# Altium schematic symbol library adc_highspeed.SchLib: 18 symbols
Pins are listed as number, name and electrical type; pins without a type are passive.

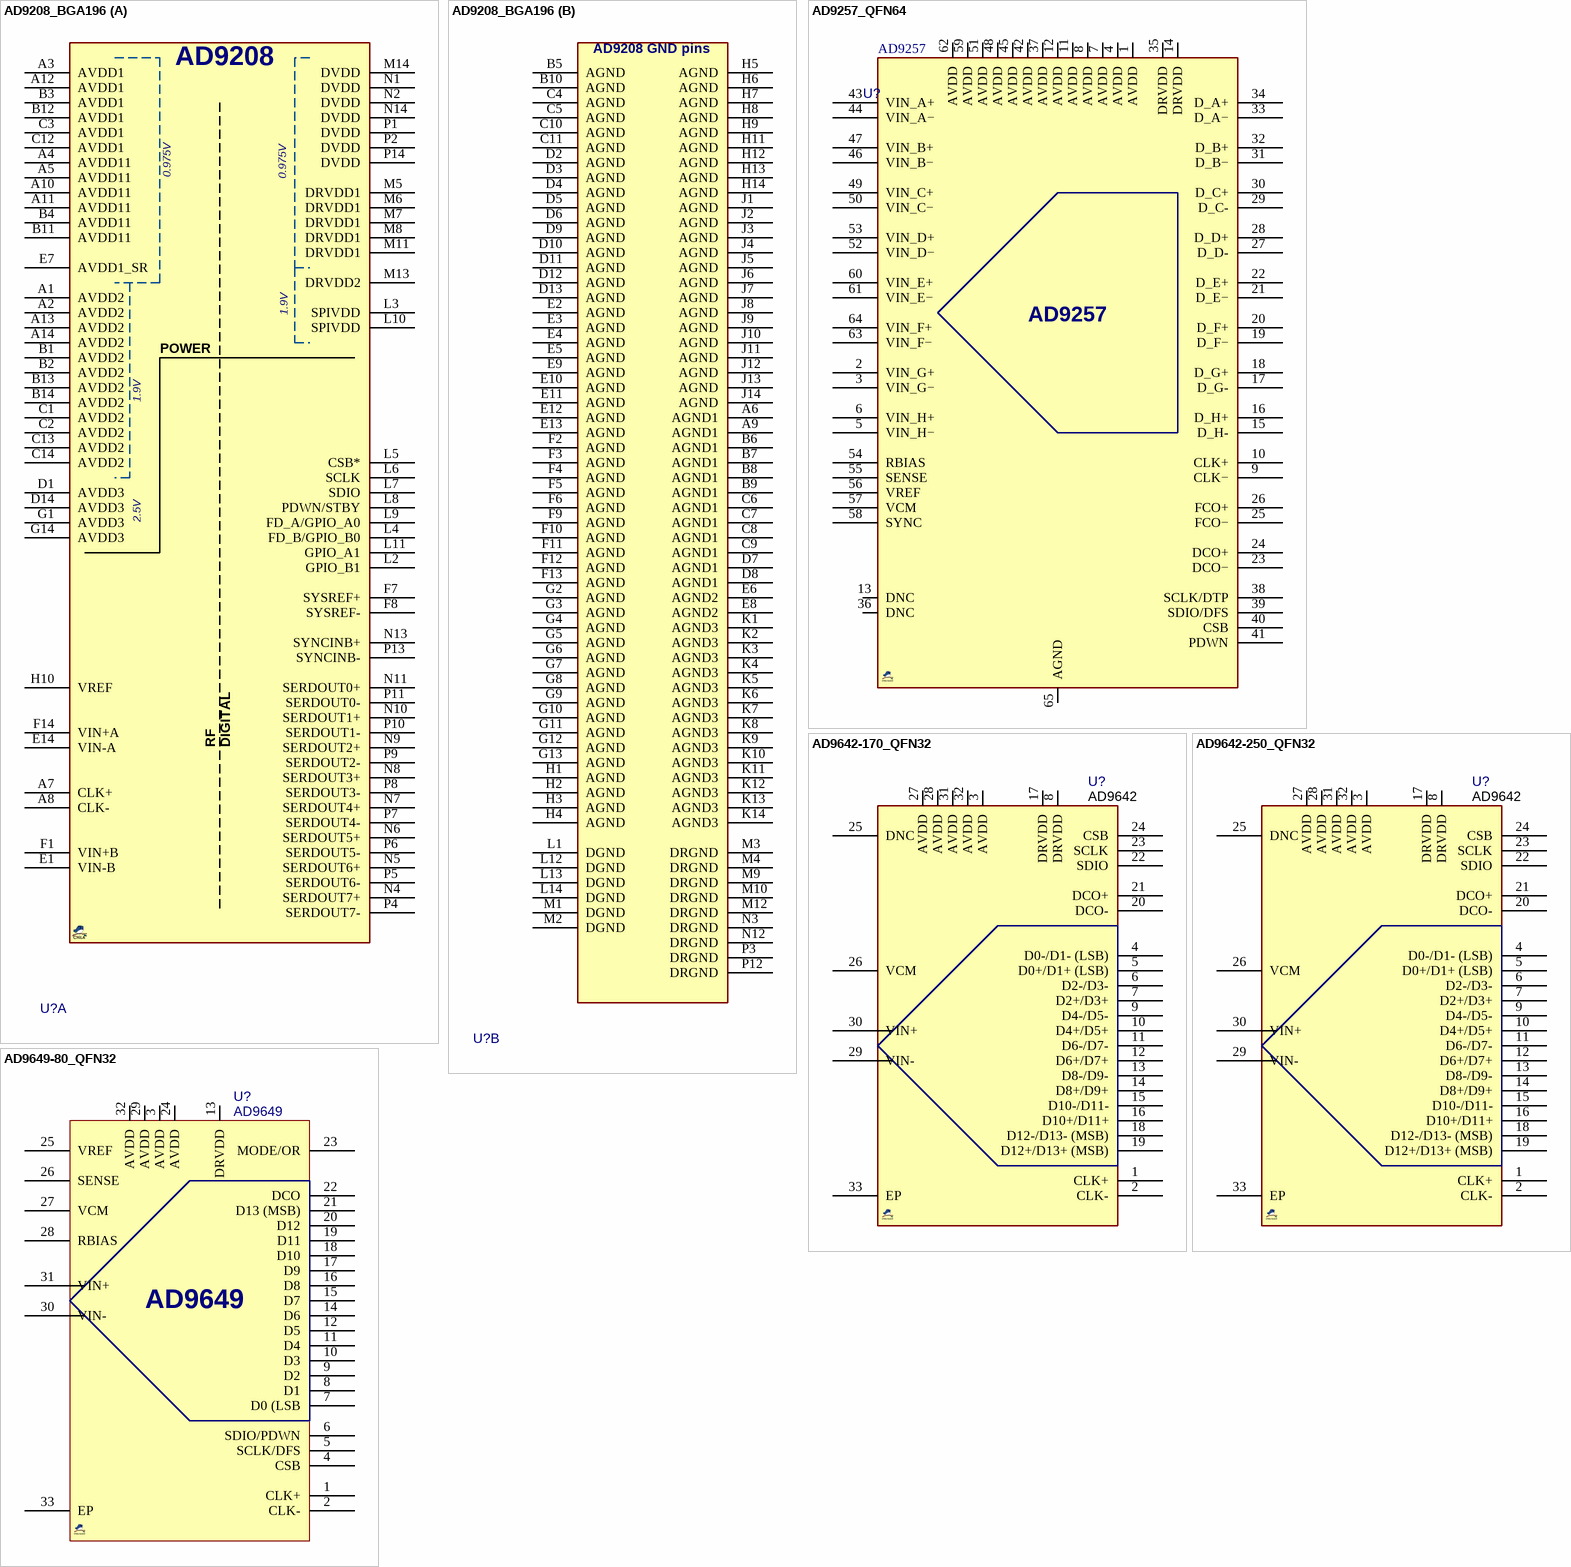
[diagram p0: symbols AD9208_BGA196 to AD9649-80_QFN32]

## AD9208_BGA196
designator U?, comment AD9208  (value not drawn)
ADC, 14-Bit, 3Gsps, Dual, JESD204B; MANF: Analog Devices; PARAM: -40~85°C; DESC: DESCRIPTION; MANF_P#: AD9208BBPZ-3000; PARAM2: 0.975V, 1.9V, 2.5V; ASSEMBLY: ASSEMBLY; PRICE: 1600$; VALUE: AD9208; PACKAGE: BGA-196
footprint BGA80_196_S12 (BP-196-4, 0.8mm pitch, 12X12X1.53mm)
part A pins: A1 AVDD2, A2 AVDD2, A3 AVDD1, A4 AVDD11, A5 AVDD11, A7 CLK+, A8 CLK-, A10 AVDD11, A11 AVDD11, A12 AVDD1, A13 AVDD2, A14 AVDD2, B1 AVDD2, B2 AVDD2, B3 AVDD1, B4 AVDD11, B11 AVDD11, B12 AVDD1, B13 AVDD2, B14 AVDD2, C1 AVDD2, C2 AVDD2, C3 AVDD1, C12 AVDD1, C13 AVDD2, C14 AVDD2, D1 AVDD3, D14 AVDD3, E1 VIN-B, E7 AVDD1_SR, E14 VIN-A, F1 VIN+B, F7 SYSREF+, F8 SYSREF-, F14 VIN+A, G1 AVDD3, G14 AVDD3, H10 VREF, L2 GPIO_B1, L3 SPIVDD, L4 FD_B/GPIO_B0, L5 CSB*, L6 SCLK, L7 SDIO, L8 PDWN/STBY, L9 FD_A/GPIO_A0, L10 SPIVDD, L11 GPIO_A1, M5 DRVDD1, M6 DRVDD1, M7 DRVDD1, M8 DRVDD1, M11 DRVDD1, M13 DRVDD2, M14 DVDD, N1 DVDD, N2 DVDD, N4 SERDOUT7+, N5 SERDOUT6+, N6 SERDOUT5+, N7 SERDOUT4+, N8 SERDOUT3+, N9 SERDOUT2+, N10 SERDOUT1+, N11 SERDOUT0+, N13 SYNCINB+, N14 DVDD, P1 DVDD, P2 DVDD, P4 SERDOUT7-, P5 SERDOUT6-, P6 SERDOUT5-, P7 SERDOUT4-, P8 SERDOUT3-, P9 SERDOUT2-, P10 SERDOUT1-, P11 SERDOUT0-, P13 SYNCINB-, P14 DVDD
part B pins: A6 AGND1, A9 AGND1, B5 AGND, B6 AGND1, B7 AGND1, B8 AGND1, B9 AGND1, B10 AGND, C4 AGND, C5 AGND, C6 AGND1, C7 AGND1, C8 AGND1, C9 AGND1, C10 AGND, C11 AGND, D2 AGND, D3 AGND, D4 AGND, D5 AGND, D6 AGND, D7 AGND1, D8 AGND1, D9 AGND, D10 AGND, D11 AGND, D12 AGND, D13 AGND, E2 AGND, E3 AGND, E4 AGND, E5 AGND, E6 AGND2, E8 AGND2, E9 AGND, E10 AGND, E11 AGND, E12 AGND, E13 AGND, F2 AGND, F3 AGND, F4 AGND, F5 AGND, F6 AGND, F9 AGND, F10 AGND, F11 AGND, F12 AGND, F13 AGND, G2 AGND, G3 AGND, G4 AGND, G5 AGND, G6 AGND, G7 AGND, G8 AGND, G9 AGND, G10 AGND, G11 AGND, G12 AGND, G13 AGND, H1 AGND, H2 AGND, H3 AGND, H4 AGND, H5 AGND, H6 AGND, H7 AGND, H8 AGND, H9 AGND, H11 AGND, H12 AGND, H13 AGND, H14 AGND, J1 AGND, J2 AGND, J3 AGND, J4 AGND, J5 AGND, J6 AGND, J7 AGND, J8 AGND, J9 AGND, J10 AGND, J11 AGND, J12 AGND, J13 AGND, J14 AGND, K1 AGND3, K2 AGND3, K3 AGND3, K4 AGND3, K5 AGND3, K6 AGND3, K7 AGND3, K8 AGND3, K9 AGND3, K10 AGND3, K11 AGND3, K12 AGND3, K13 AGND3, K14 AGND3, L1 DGND, L12 DGND, L13 DGND, L14 DGND, M1 DGND, M2 DGND, M3 DRGND, M4 DRGND, M9 DRGND, M10 DRGND, M12 DRGND, N3 DRGND, N12 DRGND, P3 DRGND, P12 DRGND
part A text: 0.975V; 1.9V; POWER; 2.5V; RF; DIGITAL
part B text: AD9208 GND pins

## AD9257_QFN64
designator U?, comment AD9257
ADC, 14-Bit, 40/65MSPS, 8CH, Serial LVDS, 1.8V, QFN-64; MANF: Analog Devices; MANF_P#: AD9257BCPZ; PARAM: 14-Bit, 40/65 MSPS, 8CH, 650MHz BW; PARAM2: Serial LVDS, 1.8V, 550mW; DIST#: -; PRICE: 76$; PACKAGE: QFN-64; VALUE: AD9257
footprint QFN50_64T (LFCSP_VQ, MO-220-VMMD-4, MO-220-WNJR-5(JEDEC), RGC S-PQFP-N64 (TI), 9X9mm, 0.5mm)
pins: 1 AVDD, 2 VIN_G+, 3 VIN_G−, 4 AVDD, 5 VIN_H−, 6 VIN_H+, 7 AVDD, 8 AVDD, 9 CLK−, 10 CLK+, 11 AVDD, 12 AVDD, 13 DNC, 14 DRVDD, 15 D_H-, 16 D_H+, 17 D_G-, 18 D_G+, 19 D_F−, 20 D_F+, 21 D_E−, 22 D_E+, 23 DCO−, 24 DCO+, 25 FCO−, 26 FCO+, 27 D_D-, 28 D_D+, 29 D_C-, 30 D_C+, 31 D_B−, 32 D_B+, 33 D_A−, 34 D_A+, 35 DRVDD, 36 DNC, 37 AVDD, 38 SCLK/DTP, 39 SDIO/DFS, 40 CSB, 41 PDWN, 42 AVDD, 43 VIN_A+, 44 VIN_A−, 45 AVDD, 46 VIN_B−, 47 VIN_B+, 48 AVDD, 49 VIN_C+, 50 VIN_C−, 51 AVDD, 52 VIN_D−, 53 VIN_D+, 54 RBIAS, 55 SENSE, 56 VREF, 57 VCM, 58 SYNC, 59 AVDD, 60 VIN_E+, 61 VIN_E−, 62 AVDD, 63 VIN_F−, 64 VIN_F+, 65 AGND

## AD9642-170_QFN32
designator U?, comment AD9642
ADC, 14-Bit, 170MSPS, Parallel LVDS, 1.8V, QFN-32; MANF: Analog Devices; DESC: DESCRIPTION; MANF_P#: AD9642BCPZ-170; ASSEMBLY: ASSEMBLY; PARAM: 14-Bit, 170MSPS, Parallel LVDS; PRICE: 65$; PARAM2: 1.8V; PACKAGE: QFN-32; Value: AD9642
footprint QFN50_32T (QFN, 32, 5X5mm, 0.5mm)
pins: 1 CLK+, 2 CLK-, 3 AVDD, 4 D0-/D1- (LSB), 5 D0+/D1+ (LSB), 6 D2-/D3-, 7 D2+/D3+, 8 DRVDD, 9 D4-/D5-, 10 D4+/D5+, 11 D6-/D7-, 12 D6+/D7+, 13 D8-/D9-, 14 D8+/D9+, 15 D10-/D11-, 16 D10+/D11+, 17 DRVDD, 18 D12-/D13- (MSB), 19 D12+/D13+ (MSB), 20 DCO-, 21 DCO+, 22 SDIO, 23 SCLK, 24 CSB, 25 DNC, 26 VCM, 27 AVDD, 28 AVDD, 29 VIN-, 30 VIN+, 31 AVDD, 32 AVDD, 33 EP

## AD9642-250_QFN32
designator U?, comment AD9642
ADC, 14-Bit, 250MSPS, Parallel LVDS, 1.8V, QFN-32; MANF: Analog Devices; DESC: DESCRIPTION; MANF_P#: AD9642BCPZ-250; PARAM2: 1.8V, 390mW; ASSEMBLY: ASSEMBLY; PARAM: 14-Bit, 250MSPS, Parallel LVDS; PRICE: 110$; PACKAGE: QFN-32; Value: AD9642
footprint QFN50_32T (QFN, 32, 5X5mm, 0.5mm)
pins: 1 CLK+, 2 CLK-, 3 AVDD, 4 D0-/D1- (LSB), 5 D0+/D1+ (LSB), 6 D2-/D3-, 7 D2+/D3+, 8 DRVDD, 9 D4-/D5-, 10 D4+/D5+, 11 D6-/D7-, 12 D6+/D7+, 13 D8-/D9-, 14 D8+/D9+, 15 D10-/D11-, 16 D10+/D11+, 17 DRVDD, 18 D12-/D13- (MSB), 19 D12+/D13+ (MSB), 20 DCO-, 21 DCO+, 22 SDIO, 23 SCLK, 24 CSB, 25 DNC, 26 VCM, 27 AVDD, 28 AVDD, 29 VIN-, 30 VIN+, 31 AVDD, 32 AVDD, 33 EP

## AD9649-80_QFN32
designator U?, comment AD9649
ADC, 14-Bit, 80MSPS, Parallel LVDS, 1.8V, QFN-32; MANF_P#: AD9649BCPZ-80; MANF: ANALOG DEVICE; MANF: Analog Devices; PARAM: 14-Bit, 80MSPS, Parallel LVDS, 700MHz; DESC: DESCRIPTION; PARAM2: 1.8V, 87mW; ASSEMBLY: ASSEMBLY; PRICE: 34$; PACKAGE: QFN-32; Value: AD9649
footprint QFN50_32T (QFN, 32, 5X5mm, 0.5mm)
pins: 1 CLK+, 2 CLK-, 3 AVDD, 4 CSB, 5 SCLK/DFS, 6 SDIO/PDWN, 7 D0 (LSB, 8 D1, 9 D2, 10 D3, 11 D4, 12 D5, 13 DRVDD, 14 D6, 15 D7, 16 D8, 17 D9, 18 D10, 19 D11, 20 D12, 21 D13 (MSB), 22 DCO, 23 MODE/OR, 24 AVDD, 25 VREF, 26 SENSE, 27 VCM, 28 RBIAS, 29 AVDD, 30 VIN-, 31 VIN+, 32 AVDD, 33 EP

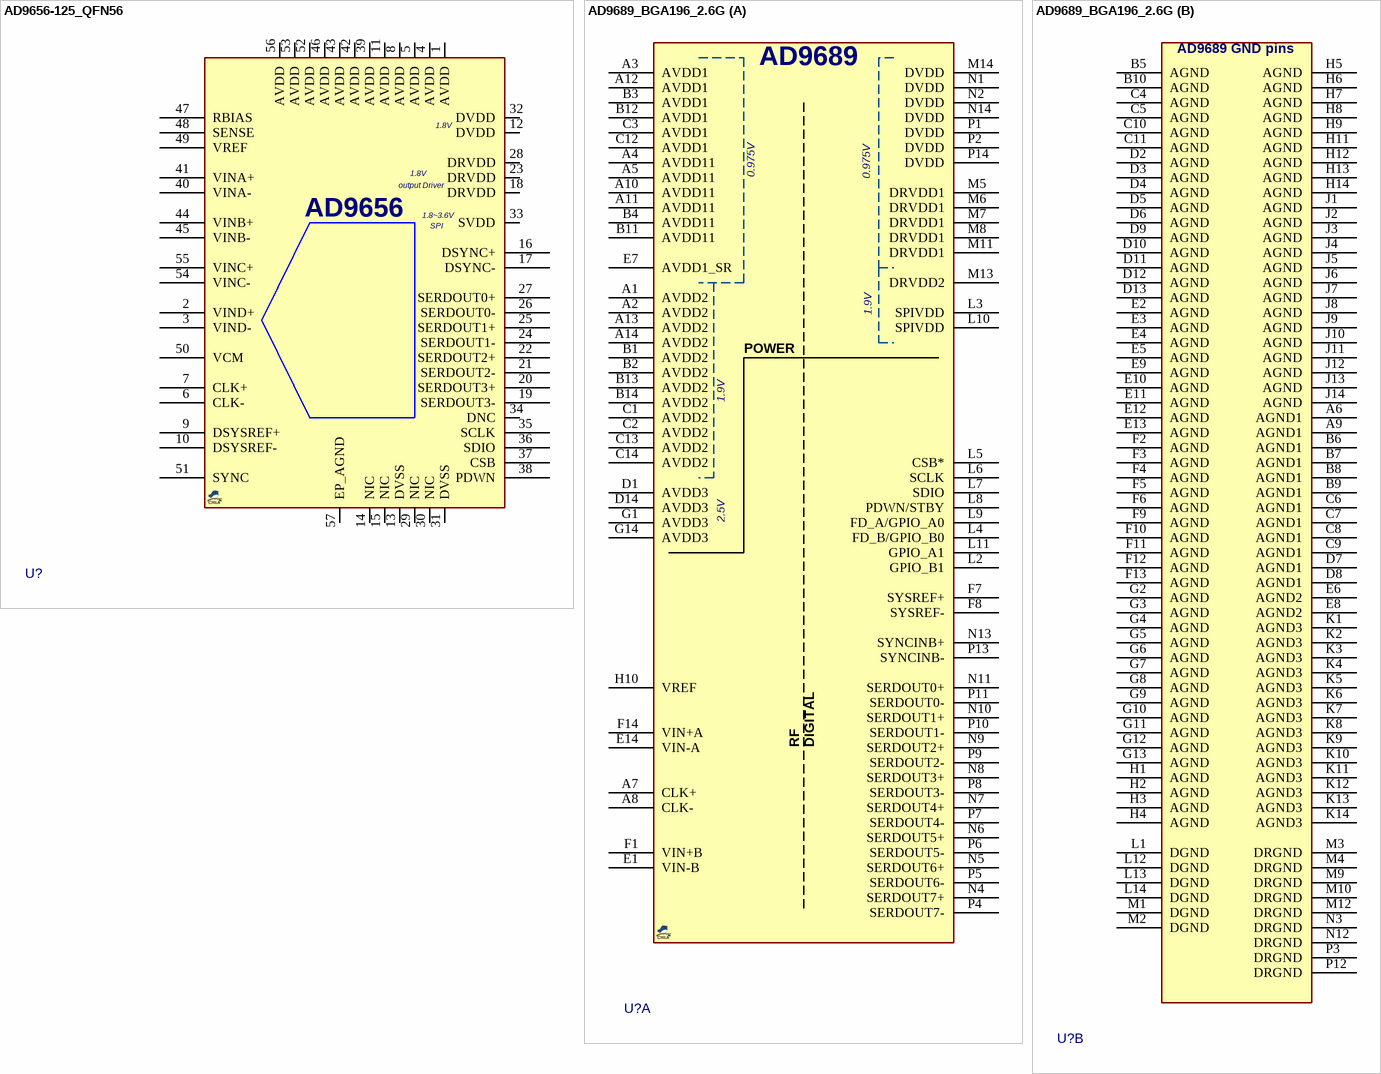
[diagram p1: symbols AD9656-125_QFN56 to AD9689_BGA196_2.6G]

## AD9656-125_QFN56
designator U?, comment AD9656  (value not drawn)
ADC, 16-Bit, 125Msps, 4CH, JESD204B; MANF: Analog Devices; PARAM: 0.8W; DESC: DESCRIPTION; MANF_P#: AD9656BCPZ-125; PARAM2: 1.8V, 1.8~3.6SVDD; ASSEMBLY: ASSEMBLY; PRICE: 500$; VALUE: AD9656; PACKAGE: QFN-56
footprint QFN50_56T (QFN56, pitch: 0.5mm, 8x8mm)
pins: 1 AVDD, 2 VIND+, 3 VIND-, 4 AVDD, 5 AVDD, 6 CLK-, 7 CLK+, 8 AVDD, 9 DSYSREF+, 10 DSYSREF-, 11 AVDD, 12 DVDD, 13 DVSS, 14 NIC, 15 NIC, 16 DSYNC+, 17 DSYNC-, 18 DRVDD, 19 SERDOUT3-, 20 SERDOUT3+, 21 SERDOUT2-, 22 SERDOUT2+, 23 DRVDD, 24 SERDOUT1-, 25 SERDOUT1+, 26 SERDOUT0-, 27 SERDOUT0+, 28 DRVDD, 29 NIC, 30 NIC, 31 DVSS, 32 DVDD, 33 SVDD, 34 DNC, 35 SCLK, 36 SDIO, 37 CSB, 38 PDWN, 39 AVDD, 40 VINA-, 41 VINA+, 42 AVDD, 43 AVDD, 44 VINB+, 45 VINB-, 46 AVDD, 47 RBIAS, 48 SENSE, 49 VREF, 50 VCM, 51 SYNC, 52 AVDD, 53 AVDD, 54 VINC-, 55 VINC+, 56 AVDD, 57 EP_AGND
text: 1.8V; output Driver; 1.8~3.6V; SPI

## AD9689_BGA196_2.6G
designator U?, comment AD9689  (value not drawn)
ADC, 14-Bit, 2.6Gsps, Dual, JESD204B; MANF: Analog Devices; PARAM: -40~85°C; DESC: DESCRIPTION; MANF_P#: AD9689BBPZ-2600; PARAM2: 0.975V, 1.9V, 2.5V; ASSEMBLY: ASSEMBLY; PRICE: 1600$; VALUE: AD9689; PACKAGE: BGA-196
footprint BGA80_196_S12 (BP-196-4, 0.8mm pitch, 12X12X1.53mm)
part A pins: A1 AVDD2, A2 AVDD2, A3 AVDD1, A4 AVDD11, A5 AVDD11, A7 CLK+, A8 CLK-, A10 AVDD11, A11 AVDD11, A12 AVDD1, A13 AVDD2, A14 AVDD2, B1 AVDD2, B2 AVDD2, B3 AVDD1, B4 AVDD11, B11 AVDD11, B12 AVDD1, B13 AVDD2, B14 AVDD2, C1 AVDD2, C2 AVDD2, C3 AVDD1, C12 AVDD1, C13 AVDD2, C14 AVDD2, D1 AVDD3, D14 AVDD3, E1 VIN-B, E7 AVDD1_SR, E14 VIN-A, F1 VIN+B, F7 SYSREF+, F8 SYSREF-, F14 VIN+A, G1 AVDD3, G14 AVDD3, H10 VREF, L2 GPIO_B1, L3 SPIVDD, L4 FD_B/GPIO_B0, L5 CSB*, L6 SCLK, L7 SDIO, L8 PDWN/STBY, L9 FD_A/GPIO_A0, L10 SPIVDD, L11 GPIO_A1, M5 DRVDD1, M6 DRVDD1, M7 DRVDD1, M8 DRVDD1, M11 DRVDD1, M13 DRVDD2, M14 DVDD, N1 DVDD, N2 DVDD, N4 SERDOUT7+, N5 SERDOUT6+, N6 SERDOUT5+, N7 SERDOUT4+, N8 SERDOUT3+, N9 SERDOUT2+, N10 SERDOUT1+, N11 SERDOUT0+, N13 SYNCINB+, N14 DVDD, P1 DVDD, P2 DVDD, P4 SERDOUT7-, P5 SERDOUT6-, P6 SERDOUT5-, P7 SERDOUT4-, P8 SERDOUT3-, P9 SERDOUT2-, P10 SERDOUT1-, P11 SERDOUT0-, P13 SYNCINB-, P14 DVDD
part B pins: A6 AGND1, A9 AGND1, B5 AGND, B6 AGND1, B7 AGND1, B8 AGND1, B9 AGND1, B10 AGND, C4 AGND, C5 AGND, C6 AGND1, C7 AGND1, C8 AGND1, C9 AGND1, C10 AGND, C11 AGND, D2 AGND, D3 AGND, D4 AGND, D5 AGND, D6 AGND, D7 AGND1, D8 AGND1, D9 AGND, D10 AGND, D11 AGND, D12 AGND, D13 AGND, E2 AGND, E3 AGND, E4 AGND, E5 AGND, E6 AGND2, E8 AGND2, E9 AGND, E10 AGND, E11 AGND, E12 AGND, E13 AGND, F2 AGND, F3 AGND, F4 AGND, F5 AGND, F6 AGND, F9 AGND, F10 AGND, F11 AGND, F12 AGND, F13 AGND, G2 AGND, G3 AGND, G4 AGND, G5 AGND, G6 AGND, G7 AGND, G8 AGND, G9 AGND, G10 AGND, G11 AGND, G12 AGND, G13 AGND, H1 AGND, H2 AGND, H3 AGND, H4 AGND, H5 AGND, H6 AGND, H7 AGND, H8 AGND, H9 AGND, H11 AGND, H12 AGND, H13 AGND, H14 AGND, J1 AGND, J2 AGND, J3 AGND, J4 AGND, J5 AGND, J6 AGND, J7 AGND, J8 AGND, J9 AGND, J10 AGND, J11 AGND, J12 AGND, J13 AGND, J14 AGND, K1 AGND3, K2 AGND3, K3 AGND3, K4 AGND3, K5 AGND3, K6 AGND3, K7 AGND3, K8 AGND3, K9 AGND3, K10 AGND3, K11 AGND3, K12 AGND3, K13 AGND3, K14 AGND3, L1 DGND, L12 DGND, L13 DGND, L14 DGND, M1 DGND, M2 DGND, M3 DRGND, M4 DRGND, M9 DRGND, M10 DRGND, M12 DRGND, N3 DRGND, N12 DRGND, P3 DRGND, P12 DRGND
part A text: 0.975V; 1.9V; POWER; 2.5V; RF; DIGITAL
part B text: AD9689 GND pins

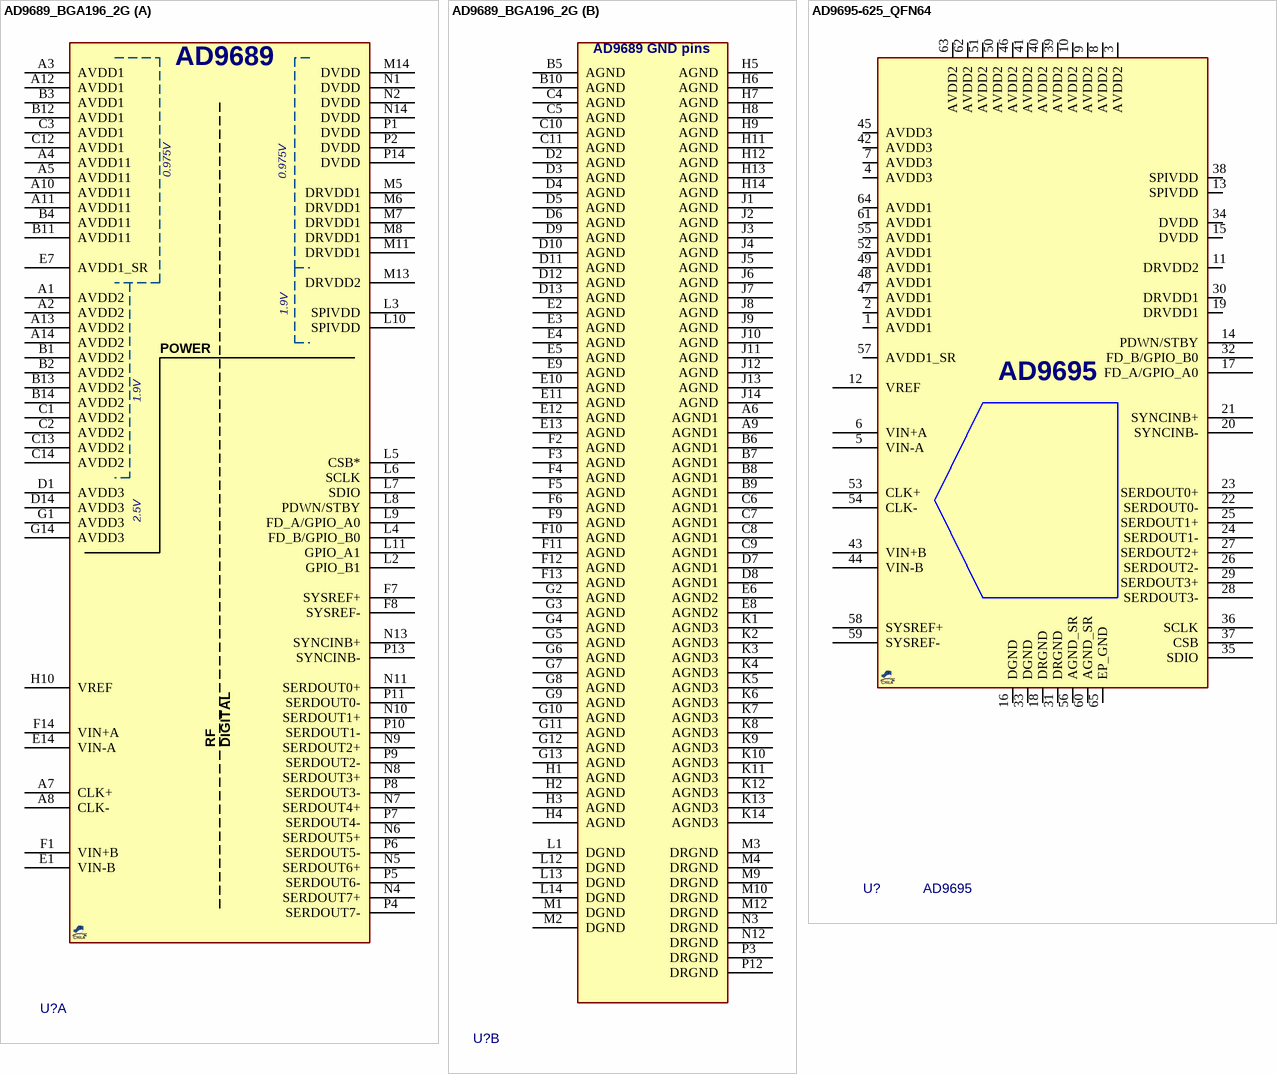
[diagram p2: symbols AD9689_BGA196_2G to AD9695-625_QFN64]

## AD9689_BGA196_2G
designator U?, comment AD9689  (value not drawn)
ADC, 14-Bit, 2Gsps, Dual, JESD204B; MANF: Analog Devices; PARAM: -40~85°C; DESC: DESCRIPTION; MANF_P#: AD9689BBPZ-2000; PARAM2: 0.975V, 1.9V, 2.5V; ASSEMBLY: ASSEMBLY; PRICE: 1600$; VALUE: AD9689; PACKAGE: BGA-196
footprint BGA80_196_S12 (BP-196-4, 0.8mm pitch, 12X12X1.53mm)
part A pins: A1 AVDD2, A2 AVDD2, A3 AVDD1, A4 AVDD11, A5 AVDD11, A7 CLK+, A8 CLK-, A10 AVDD11, A11 AVDD11, A12 AVDD1, A13 AVDD2, A14 AVDD2, B1 AVDD2, B2 AVDD2, B3 AVDD1, B4 AVDD11, B11 AVDD11, B12 AVDD1, B13 AVDD2, B14 AVDD2, C1 AVDD2, C2 AVDD2, C3 AVDD1, C12 AVDD1, C13 AVDD2, C14 AVDD2, D1 AVDD3, D14 AVDD3, E1 VIN-B, E7 AVDD1_SR, E14 VIN-A, F1 VIN+B, F7 SYSREF+, F8 SYSREF-, F14 VIN+A, G1 AVDD3, G14 AVDD3, H10 VREF, L2 GPIO_B1, L3 SPIVDD, L4 FD_B/GPIO_B0, L5 CSB*, L6 SCLK, L7 SDIO, L8 PDWN/STBY, L9 FD_A/GPIO_A0, L10 SPIVDD, L11 GPIO_A1, M5 DRVDD1, M6 DRVDD1, M7 DRVDD1, M8 DRVDD1, M11 DRVDD1, M13 DRVDD2, M14 DVDD, N1 DVDD, N2 DVDD, N4 SERDOUT7+, N5 SERDOUT6+, N6 SERDOUT5+, N7 SERDOUT4+, N8 SERDOUT3+, N9 SERDOUT2+, N10 SERDOUT1+, N11 SERDOUT0+, N13 SYNCINB+, N14 DVDD, P1 DVDD, P2 DVDD, P4 SERDOUT7-, P5 SERDOUT6-, P6 SERDOUT5-, P7 SERDOUT4-, P8 SERDOUT3-, P9 SERDOUT2-, P10 SERDOUT1-, P11 SERDOUT0-, P13 SYNCINB-, P14 DVDD
part B pins: A6 AGND1, A9 AGND1, B5 AGND, B6 AGND1, B7 AGND1, B8 AGND1, B9 AGND1, B10 AGND, C4 AGND, C5 AGND, C6 AGND1, C7 AGND1, C8 AGND1, C9 AGND1, C10 AGND, C11 AGND, D2 AGND, D3 AGND, D4 AGND, D5 AGND, D6 AGND, D7 AGND1, D8 AGND1, D9 AGND, D10 AGND, D11 AGND, D12 AGND, D13 AGND, E2 AGND, E3 AGND, E4 AGND, E5 AGND, E6 AGND2, E8 AGND2, E9 AGND, E10 AGND, E11 AGND, E12 AGND, E13 AGND, F2 AGND, F3 AGND, F4 AGND, F5 AGND, F6 AGND, F9 AGND, F10 AGND, F11 AGND, F12 AGND, F13 AGND, G2 AGND, G3 AGND, G4 AGND, G5 AGND, G6 AGND, G7 AGND, G8 AGND, G9 AGND, G10 AGND, G11 AGND, G12 AGND, G13 AGND, H1 AGND, H2 AGND, H3 AGND, H4 AGND, H5 AGND, H6 AGND, H7 AGND, H8 AGND, H9 AGND, H11 AGND, H12 AGND, H13 AGND, H14 AGND, J1 AGND, J2 AGND, J3 AGND, J4 AGND, J5 AGND, J6 AGND, J7 AGND, J8 AGND, J9 AGND, J10 AGND, J11 AGND, J12 AGND, J13 AGND, J14 AGND, K1 AGND3, K2 AGND3, K3 AGND3, K4 AGND3, K5 AGND3, K6 AGND3, K7 AGND3, K8 AGND3, K9 AGND3, K10 AGND3, K11 AGND3, K12 AGND3, K13 AGND3, K14 AGND3, L1 DGND, L12 DGND, L13 DGND, L14 DGND, M1 DGND, M2 DGND, M3 DRGND, M4 DRGND, M9 DRGND, M10 DRGND, M12 DRGND, N3 DRGND, N12 DRGND, P3 DRGND, P12 DRGND
part A text: 0.975V; 1.9V; POWER; 2.5V; RF; DIGITAL
part B text: AD9689 GND pins

## AD9695-625_QFN64
designator U?, comment AD9695
ADC, 14-Bit, 625MSPS, 2CH, JESD204B; MANF: Analog Devices; DESC: DESCRIPTION; MANF_P#: AD9695BCPZ-625; PARAM2: 0.95V, 1.8V, 2.5V; ASSEMBLY: ASSEMBLY; PARAM: PARAM; PRICE: 550$; VALUE: AD9695; PACKAGE: QFN-64
footprint QFN50_64T (LFCSP_VQ, MO-220-VMMD-4, MO-220-WNJR-5(JEDEC), RGC S-PQFP-N64 (TI), 9X9mm, 0.5mm)
pins: 1 AVDD1, 2 AVDD1, 3 AVDD2, 4 AVDD3, 5 VIN-A, 6 VIN+A, 7 AVDD3, 8 AVDD2, 9 AVDD2, 10 AVDD2, 11 DRVDD2, 12 VREF, 13 SPIVDD, 14 PDWN/STBY, 15 DVDD, 16 DGND, 17 FD_A/GPIO_A0, 18 DRGND, 19 DRVDD1, 20 SYNCINB-, 21 SYNCINB+, 22 SERDOUT0-, 23 SERDOUT0+, 24 SERDOUT1-, 25 SERDOUT1+, 26 SERDOUT2-, 27 SERDOUT2+, 28 SERDOUT3-, 29 SERDOUT3+, 30 DRVDD1, 31 DRGND, 32 FD_B/GPIO_B0, 33 DGND, 34 DVDD, 35 SDIO, 36 SCLK, 37 CSB, 38 SPIVDD, 39 AVDD2, 40 AVDD2, 41 AVDD2, 42 AVDD3, 43 VIN+B, 44 VIN-B, 45 AVDD3, 46 AVDD2, 47 AVDD1, 48 AVDD1, 49 AVDD1, 50 AVDD2, 51 AVDD2, 52 AVDD1, 53 CLK+, 54 CLK-, 55 AVDD1, 56 AGND_SR, 57 AVDD1_SR, 58 SYSREF+, 59 SYSREF-, 60 AGND_SR, 61 AVDD1, 62 AVDD2, 63 AVDD2, 64 AVDD1, 65 EP_GND

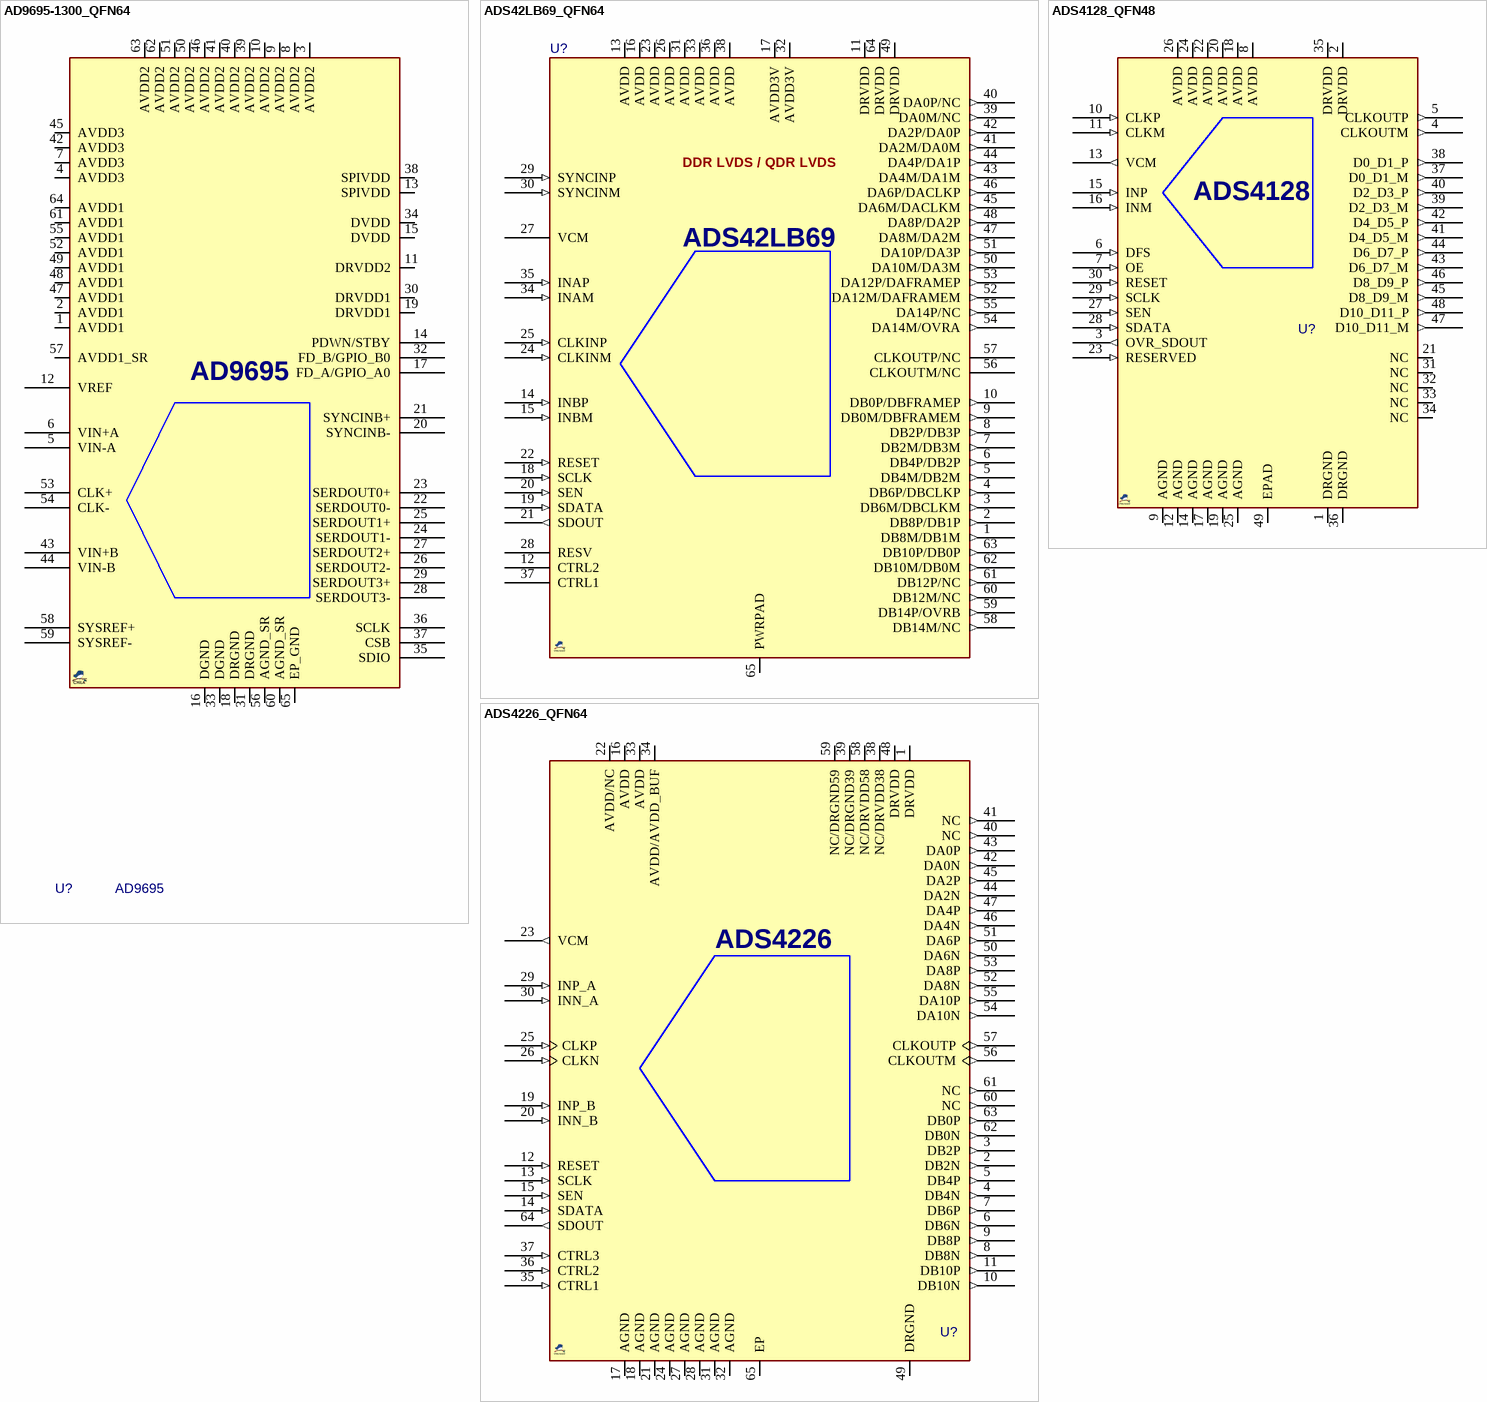
[diagram p3: symbols AD9695-1300_QFN64 to ADS4226_QFN64]

## AD9695-1300_QFN64
designator U?, comment AD9695
ADC, 14-Bit, 1300MSPS, 2CH, JESD204B; MANF: Analog Devices; DESC: DESCRIPTION; MANF_P#: AD9695BCPZ-1300; PARAM2: 0.95V, 1.8V, 2.5V; ASSEMBLY: ASSEMBLY; PARAM: PARAM; PRICE: 1000$; VALUE: AD9695; PACKAGE: QFN-64
footprint QFN50_64T (LFCSP_VQ, MO-220-VMMD-4, MO-220-WNJR-5(JEDEC), RGC S-PQFP-N64 (TI), 9X9mm, 0.5mm)
pins: 1 AVDD1, 2 AVDD1, 3 AVDD2, 4 AVDD3, 5 VIN-A, 6 VIN+A, 7 AVDD3, 8 AVDD2, 9 AVDD2, 10 AVDD2, 11 DRVDD2, 12 VREF, 13 SPIVDD, 14 PDWN/STBY, 15 DVDD, 16 DGND, 17 FD_A/GPIO_A0, 18 DRGND, 19 DRVDD1, 20 SYNCINB-, 21 SYNCINB+, 22 SERDOUT0-, 23 SERDOUT0+, 24 SERDOUT1-, 25 SERDOUT1+, 26 SERDOUT2-, 27 SERDOUT2+, 28 SERDOUT3-, 29 SERDOUT3+, 30 DRVDD1, 31 DRGND, 32 FD_B/GPIO_B0, 33 DGND, 34 DVDD, 35 SDIO, 36 SCLK, 37 CSB, 38 SPIVDD, 39 AVDD2, 40 AVDD2, 41 AVDD2, 42 AVDD3, 43 VIN+B, 44 VIN-B, 45 AVDD3, 46 AVDD2, 47 AVDD1, 48 AVDD1, 49 AVDD1, 50 AVDD2, 51 AVDD2, 52 AVDD1, 53 CLK+, 54 CLK-, 55 AVDD1, 56 AGND_SR, 57 AVDD1_SR, 58 SYSREF+, 59 SYSREF-, 60 AGND_SR, 61 AVDD1, 62 AVDD2, 63 AVDD2, 64 AVDD1, 65 EP_GND

## ADS42LB69_QFN64
designator U?, comment ADS42LB69  (value not drawn)
ADC, 16-Bit, 250MSPS, 2CH, Parallel LVDS, QDR, QFN-64; MANF_P#: ADS42LB69IRGC; MANF: TI; PARAM2: 1.8V, 3.3; PARAM: 250 MSPS, 2CH, Parallel LVDS/QDR; VALUE: ADS42LB69; PACKAGE: QFN-64
footprint QFN50_64T (LFCSP_VQ, MO-220-VMMD-4, MO-220-WNJR-5(JEDEC), RGC S-PQFP-N64 (TI), 9X9mm, 0.5mm)
pins: 1 DB8M/DB1M (out), 2 DB8P/DB1P (out), 3 DB6M/DBCLKM (out), 4 DB6P/DBCLKP (out), 5 DB4M/DB2M (out), 6 DB4P/DB2P (out), 7 DB2M/DB3M (out), 8 DB2P/DB3P (out), 9 DB0M/DBFRAMEM (out), 10 DB0P/DBFRAMEP (out), 11 DRVDD (power), 12 CTRL2, 13 AVDD (power), 14 INBP (in), 15 INBM (in), 16 AVDD (power), 17 AVDD3V (power), 18 SCLK (in), 19 SDATA (in), 20 SEN (in), 21 SDOUT (out), 22 RESET (in), 23 AVDD (power), 24 CLKINM (in), 25 CLKINP (in), 26 AVDD (power), 27 VCM (power), 28 RESV, 29 SYNCINP (in), 30 SYNCINM (in), 31 AVDD (power), 32 AVDD3V (power), 33 AVDD (power), 34 INAM (in), 35 INAP (in), 36 AVDD (power), 37 CTRL1, 38 AVDD (power), 39 DA0M/NC (out), 40 DA0P/NC (out), 41 DA2M/DA0M (out), 42 DA2P/DA0P (out), 43 DA4M/DA1M (out), 44 DA4P/DA1P (out), 45 DA6M/DACLKM (out), 46 DA6P/DACLKP (out), 47 DA8M/DA2M (out), 48 DA8P/DA2P (out), 49 DRVDD (power), 50 DA10M/DA3M (out), 51 DA10P/DA3P (out), 52 DA12M/DAFRAMEM (out), 53 DA12P/DAFRAMEP (out), 54 DA14M/OVRA (out), 55 DA14P/NC (out), 56 CLKOUTM/NC, 57 CLKOUTP/NC, 58 DB14M/NC (out), 59 DB14P/OVRB (out), 60 DB12M/NC (out), 61 DB12P/NC (out), 62 DB10M/DB0M (out), 63 DB10P/DB0P (out), 64 DRVDD (power), 65 PWRPAD (power)
text: DDR LVDS / QDR LVDS

## ADS4128_QFN48
designator U?, comment ADS4128  (value not drawn)
ADC, 12-Bit, 200MSPS, Parallel LVDS, 1.8V, QFN-48; MANF_P#: ADS4128IRGZ; MANF: TI; PARAM2: 1.8V, 500mW; PARAM: 250 MSPS, 2CH, Parallel LVDS; VALUE: ADS4128; PACKAGE: QFN-48
footprint QFN50_48T (CP-48, UFQFPN48, RGZ S-PQFP-N48, S-PWQFN-N48, MO-220-VKKD-2(JEDEC), 7X7mm, 0.5mm)
pins: 1 DRGND (power), 2 DRVDD (power), 3 OVR_SDOUT (out), 4 CLKOUTM (out), 5 CLKOUTP (out), 6 DFS (in), 7 OE (in), 8 AVDD (power), 9 AGND (power), 10 CLKP (in), 11 CLKM (in), 12 AGND (power), 13 VCM (out), 14 AGND (power), 15 INP (in), 16 INM (in), 17 AGND (power), 18 AVDD (power), 19 AGND (power), 20 AVDD (power), 21 NC, 22 AVDD (power), 23 RESERVED (in), 24 AVDD (power), 25 AGND (power), 26 AVDD (power), 27 SEN (in), 28 SDATA (in), 29 SCLK (in), 30 RESET (in), 31 NC, 32 NC, 33 NC, 34 NC, 35 DRVDD (power), 36 DRGND (power), 37 D0_D1_M (out), 38 D0_D1_P (out), 39 D2_D3_M (out), 40 D2_D3_P (out), 41 D4_D5_M (out), 42 D4_D5_P (out), 43 D6_D7_M (out), 44 D6_D7_P (out), 45 D8_D9_M (out), 46 D8_D9_P (out), 47 D10_D11_M (out), 48 D10_D11_P (out), 49 EPAD

## ADS4226_QFN64
designator U?, comment ADS4226  (value not drawn)
ADC, 12-Bit, 160MSPS, 2CH, Parallel LVDS, 1.8V, QFN-64; MANF_P#: ADS4226IRGC; MANF: TI; PARAM2: 1.8V, 500mW; PARAM: 160MSPS, 2CH, Parallel LVDS; VALUE: ADS4226; PACKAGE: QFN-64
footprint QFN50_64T (LFCSP_VQ, MO-220-VMMD-4, MO-220-WNJR-5(JEDEC), RGC S-PQFP-N64 (TI), 9X9mm, 0.5mm)
pins: 1 DRVDD (power), 2 DB2N (out), 3 DB2P (out), 4 DB4N (out), 5 DB4P (out), 6 DB6N (out), 7 DB6P (out), 8 DB8N (out), 9 DB8P (out), 10 DB10N (out), 11 DB10P (out), 12 RESET (in), 13 SCLK (in), 14 SDATA (in), 15 SEN (in), 16 AVDD (power), 17 AGND (power), 18 AGND (power), 19 INP_B (in), 20 INN_B (in), 21 AGND (power), 22 AVDD/NC, 23 VCM (out), 24 AGND (power), 25 CLKP (in), 26 CLKN (in), 27 AGND (power), 28 AGND (power), 29 INP_A (in), 30 INN_A (in), 31 AGND (power), 32 AGND (power), 33 AVDD (power), 34 AVDD/AVDD_BUF (power), 35 CTRL1 (in), 36 CTRL2 (in), 37 CTRL3 (in), 38 NC/DRVDD38, 39 NC/DRGND39, 40 NC (out), 41 NC (out), 42 DA0N (out), 43 DA0P (out), 44 DA2N (out), 45 DA2P (out), 46 DA4N (out), 47 DA4P (out), 48 DRVDD (power), 49 DRGND (power), 50 DA6N (out), 51 DA6P (out), 52 DA8N (out), 53 DA8P (out), 54 DA10N (out), 55 DA10P (out), 56 CLKOUTM (out), 57 CLKOUTP (out), 58 NC/DRVDD58, 59 NC/DRGND59, 60 NC (out), 61 NC (out), 62 DB0N (out), 63 DB0P (out), 64 SDOUT (out), 65 EP

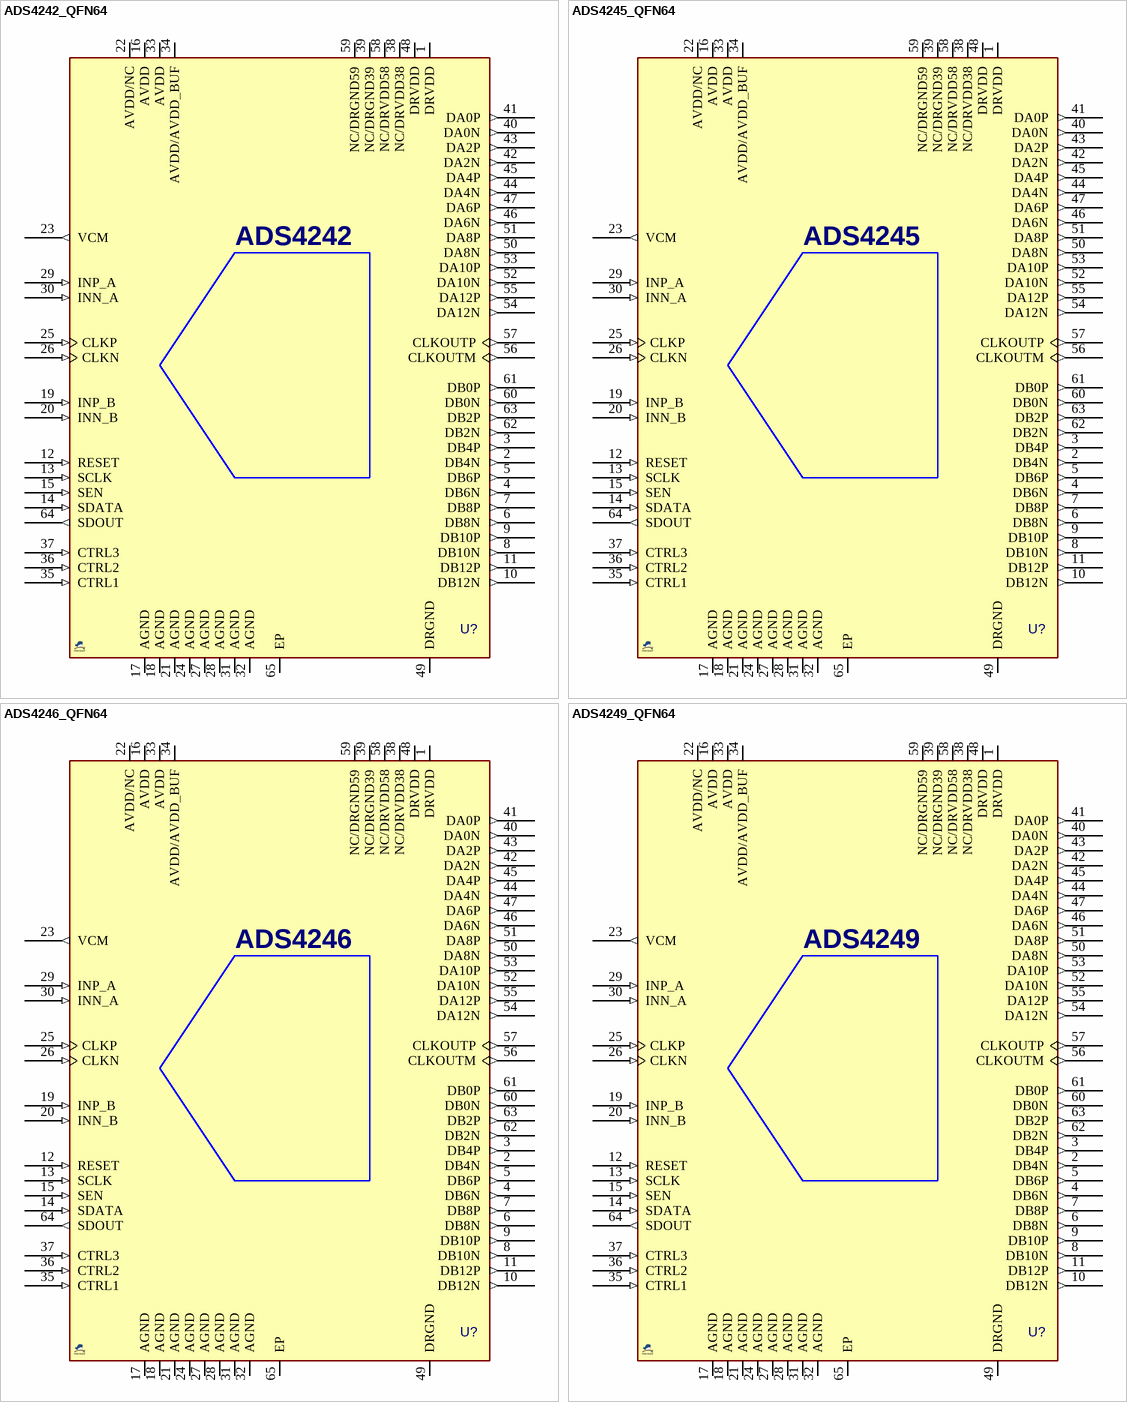
[diagram p4: symbols ADS4242_QFN64 to ADS4249_QFN64]

## ADS4242_QFN64
designator U?, comment ADS4242  (value not drawn)
ADC, 14-Bit, 65MSPS, 2CH, Parallel LVDS, 1.8V, QFN-64; MANF_P#: ADS4242IRGC; MANF: TI; PARAM2: 1.8V, 500mW; PARAM: 65MSPS, 2CH, Parallel LVDS; VALUE: ADS4242; PACKAGE: QFN-64
footprint QFN50_64T (LFCSP_VQ, MO-220-VMMD-4, MO-220-WNJR-5(JEDEC), RGC S-PQFP-N64 (TI), 9X9mm, 0.5mm)
pins: 1 DRVDD (power), 2 DB4N (out), 3 DB4P (out), 4 DB6N (out), 5 DB6P (out), 6 DB8N (out), 7 DB8P (out), 8 DB10N (out), 9 DB10P (out), 10 DB12N (out), 11 DB12P (out), 12 RESET (in), 13 SCLK (in), 14 SDATA (in), 15 SEN (in), 16 AVDD (power), 17 AGND (power), 18 AGND (power), 19 INP_B (in), 20 INN_B (in), 21 AGND (power), 22 AVDD/NC, 23 VCM (out), 24 AGND (power), 25 CLKP (in), 26 CLKN (in), 27 AGND (power), 28 AGND (power), 29 INP_A (in), 30 INN_A (in), 31 AGND (power), 32 AGND (power), 33 AVDD (power), 34 AVDD/AVDD_BUF (power), 35 CTRL1 (in), 36 CTRL2 (in), 37 CTRL3 (in), 38 NC/DRVDD38, 39 NC/DRGND39, 40 DA0N (out), 41 DA0P (out), 42 DA2N (out), 43 DA2P (out), 44 DA4N (out), 45 DA4P (out), 46 DA6N (out), 47 DA6P (out), 48 DRVDD (power), 49 DRGND (power), 50 DA8N (out), 51 DA8P (out), 52 DA10N (out), 53 DA10P (out), 54 DA12N (out), 55 DA12P (out), 56 CLKOUTM (out), 57 CLKOUTP (out), 58 NC/DRVDD58, 59 NC/DRGND59, 60 DB0N (out), 61 DB0P (out), 62 DB2N (out), 63 DB2P (out), 64 SDOUT (out), 65 EP

## ADS4245_QFN64
designator U?, comment ADS4245  (value not drawn)
ADC, 14-Bit, 125MSPS, 2CH, Parallel LVDS, 1.8V, QFN-64; MANF_P#: ADS4245IRGC; MANF: TI; PARAM2: 1.8V, 500mW; PARAM: 125MSPS, 2CH, Parallel LVDS; VALUE: ADS4245; PACKAGE: QFN-64
footprint QFN50_64T (LFCSP_VQ, MO-220-VMMD-4, MO-220-WNJR-5(JEDEC), RGC S-PQFP-N64 (TI), 9X9mm, 0.5mm)
pins: 1 DRVDD (power), 2 DB4N (out), 3 DB4P (out), 4 DB6N (out), 5 DB6P (out), 6 DB8N (out), 7 DB8P (out), 8 DB10N (out), 9 DB10P (out), 10 DB12N (out), 11 DB12P (out), 12 RESET (in), 13 SCLK (in), 14 SDATA (in), 15 SEN (in), 16 AVDD (power), 17 AGND (power), 18 AGND (power), 19 INP_B (in), 20 INN_B (in), 21 AGND (power), 22 AVDD/NC, 23 VCM (out), 24 AGND (power), 25 CLKP (in), 26 CLKN (in), 27 AGND (power), 28 AGND (power), 29 INP_A (in), 30 INN_A (in), 31 AGND (power), 32 AGND (power), 33 AVDD (power), 34 AVDD/AVDD_BUF (power), 35 CTRL1 (in), 36 CTRL2 (in), 37 CTRL3 (in), 38 NC/DRVDD38, 39 NC/DRGND39, 40 DA0N (out), 41 DA0P (out), 42 DA2N (out), 43 DA2P (out), 44 DA4N (out), 45 DA4P (out), 46 DA6N (out), 47 DA6P (out), 48 DRVDD (power), 49 DRGND (power), 50 DA8N (out), 51 DA8P (out), 52 DA10N (out), 53 DA10P (out), 54 DA12N (out), 55 DA12P (out), 56 CLKOUTM (out), 57 CLKOUTP (out), 58 NC/DRVDD58, 59 NC/DRGND59, 60 DB0N (out), 61 DB0P (out), 62 DB2N (out), 63 DB2P (out), 64 SDOUT (out), 65 EP

## ADS4246_QFN64
designator U?, comment ADS4246  (value not drawn)
ADC, 14-Bit, 160MSPS, 2CH, Parallel LVDS, 1.8V, QFN-64; MANF_P#: ADS4246IRGC; MANF: TI; PARAM2: 1.8V, 500mW; PARAM: 160MSPS, 2CH, Parallel LVDS; VALUE: ADS4246; PACKAGE: QFN-64
footprint QFN50_64T (LFCSP_VQ, MO-220-VMMD-4, MO-220-WNJR-5(JEDEC), RGC S-PQFP-N64 (TI), 9X9mm, 0.5mm)
pins: 1 DRVDD (power), 2 DB4N (out), 3 DB4P (out), 4 DB6N (out), 5 DB6P (out), 6 DB8N (out), 7 DB8P (out), 8 DB10N (out), 9 DB10P (out), 10 DB12N (out), 11 DB12P (out), 12 RESET (in), 13 SCLK (in), 14 SDATA (in), 15 SEN (in), 16 AVDD (power), 17 AGND (power), 18 AGND (power), 19 INP_B (in), 20 INN_B (in), 21 AGND (power), 22 AVDD/NC, 23 VCM (out), 24 AGND (power), 25 CLKP (in), 26 CLKN (in), 27 AGND (power), 28 AGND (power), 29 INP_A (in), 30 INN_A (in), 31 AGND (power), 32 AGND (power), 33 AVDD (power), 34 AVDD/AVDD_BUF (power), 35 CTRL1 (in), 36 CTRL2 (in), 37 CTRL3 (in), 38 NC/DRVDD38, 39 NC/DRGND39, 40 DA0N (out), 41 DA0P (out), 42 DA2N (out), 43 DA2P (out), 44 DA4N (out), 45 DA4P (out), 46 DA6N (out), 47 DA6P (out), 48 DRVDD (power), 49 DRGND (power), 50 DA8N (out), 51 DA8P (out), 52 DA10N (out), 53 DA10P (out), 54 DA12N (out), 55 DA12P (out), 56 CLKOUTM (out), 57 CLKOUTP (out), 58 NC/DRVDD58, 59 NC/DRGND59, 60 DB0N (out), 61 DB0P (out), 62 DB2N (out), 63 DB2P (out), 64 SDOUT (out), 65 EP

## ADS4249_QFN64
designator U?, comment ADS4249  (value not drawn)
ADC, 14-Bit, 250MSPS, 2CH, Parallel LVDS, 1.8V, QFN-64; MANF_P#: ADS4249IRGC; MANF: TI; PARAM2: 1.8V, 500mW; PARAM: 250 MSPS, 2CH, Parallel LVDS; VALUE: ADS4249; PACKAGE: QFN-64
footprint QFN50_64T (LFCSP_VQ, MO-220-VMMD-4, MO-220-WNJR-5(JEDEC), RGC S-PQFP-N64 (TI), 9X9mm, 0.5mm)
pins: 1 DRVDD (power), 2 DB4N (out), 3 DB4P (out), 4 DB6N (out), 5 DB6P (out), 6 DB8N (out), 7 DB8P (out), 8 DB10N (out), 9 DB10P (out), 10 DB12N (out), 11 DB12P (out), 12 RESET (in), 13 SCLK (in), 14 SDATA (in), 15 SEN (in), 16 AVDD (power), 17 AGND (power), 18 AGND (power), 19 INP_B (in), 20 INN_B (in), 21 AGND (power), 22 AVDD/NC, 23 VCM (out), 24 AGND (power), 25 CLKP (in), 26 CLKN (in), 27 AGND (power), 28 AGND (power), 29 INP_A (in), 30 INN_A (in), 31 AGND (power), 32 AGND (power), 33 AVDD (power), 34 AVDD/AVDD_BUF (power), 35 CTRL1 (in), 36 CTRL2 (in), 37 CTRL3 (in), 38 NC/DRVDD38, 39 NC/DRGND39, 40 DA0N (out), 41 DA0P (out), 42 DA2N (out), 43 DA2P (out), 44 DA4N (out), 45 DA4P (out), 46 DA6N (out), 47 DA6P (out), 48 DRVDD (power), 49 DRGND (power), 50 DA8N (out), 51 DA8P (out), 52 DA10N (out), 53 DA10P (out), 54 DA12N (out), 55 DA12P (out), 56 CLKOUTM (out), 57 CLKOUTP (out), 58 NC/DRVDD58, 59 NC/DRGND59, 60 DB0N (out), 61 DB0P (out), 62 DB2N (out), 63 DB2P (out), 64 SDOUT (out), 65 EP

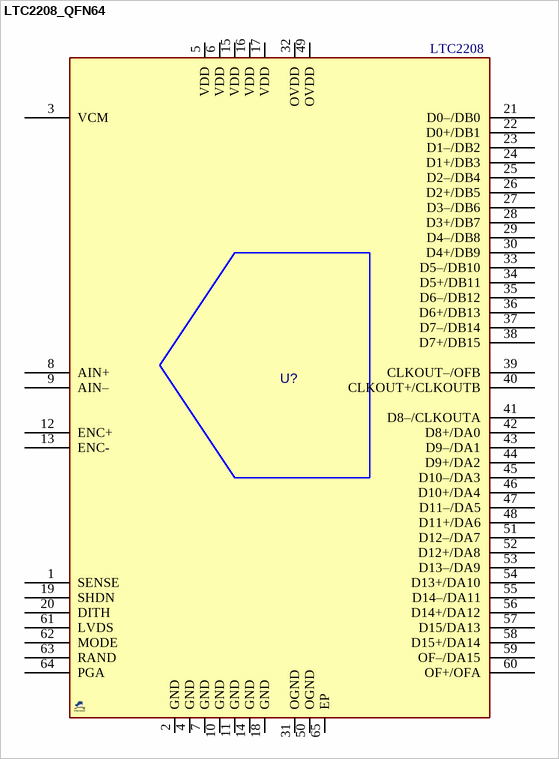
[diagram p5: symbol LTC2208_QFN64]

## LTC2208_QFN64
designator U?, comment LTC2208
ADC, 16-BIT, 130MSPS, 700MHz BW; MANF: Linear Technology; MANF_P#: LTC2208IUP; PARAM2: 3.3V, 1250mW; PARAM: 16-BIT, 130MSPS, 700MHz BW; PACKAGE: QFN-64; VALUE: LTC2208
footprint QFN50_64T (LFCSP_VQ, MO-220-VMMD-4, MO-220-WNJR-5(JEDEC), RGC S-PQFP-N64 (TI), 9X9mm, 0.5mm)
pins: 1 SENSE, 2 GND, 3 VCM, 4 GND, 5 VDD, 6 VDD, 7 GND, 8 AIN+, 9 AIN–, 10 GND, 11 GND, 12 ENC+, 13 ENC-, 14 GND, 15 VDD, 16 VDD, 17 VDD, 18 GND, 19 SHDN, 20 DITH, 21 D0–/DB0, 22 D0+/DB1, 23 D1–/DB2, 24 D1+/DB3, 25 D2–/DB4, 26 D2+/DB5, 27 D3–/DB6, 28 D3+/DB7, 29 D4–/DB8, 30 D4+/DB9, 31 OGND, 32 OVDD, 33 D5–/DB10, 34 D5+/DB11, 35 D6–/DB12, 36 D6+/DB13, 37 D7–/DB14, 38 D7+/DB15, 39 CLKOUT–/OFB, 40 CLKOUT+/CLKOUTB, 41 D8–/CLKOUTA, 42 D8+/DA0, 43 D9–/DA1, 44 D9+/DA2, 45 D10–/DA3, 46 D10+/DA4, 47 D11–/DA5, 48 D11+/DA6, 49 OVDD, 50 OGND, 51 D12–/DA7, 52 D12+/DA8, 53 D13–/DA9, 54 D13+/DA10, 55 D14–/DA11, 56 D14+/DA12, 57 D15/DA13, 58 D15+/DA14, 59 OF–/DA15, 60 OF+/OFA, 61 LVDS, 62 MODE, 63 RAND, 64 PGA, 65 EP